# Altium footprint library MiniUSB.PcbLib: 1 footprints
Each footprint in its own frame and in the unit in brackets; x right, y up, seen from the top. Pads: shape width x height; smd on the part's side, far side on the other; paste and mask are expansions set on the pad; w line width, h text height; cw(c..) or ccw(c..) is an arc to the next point about the centre after c.
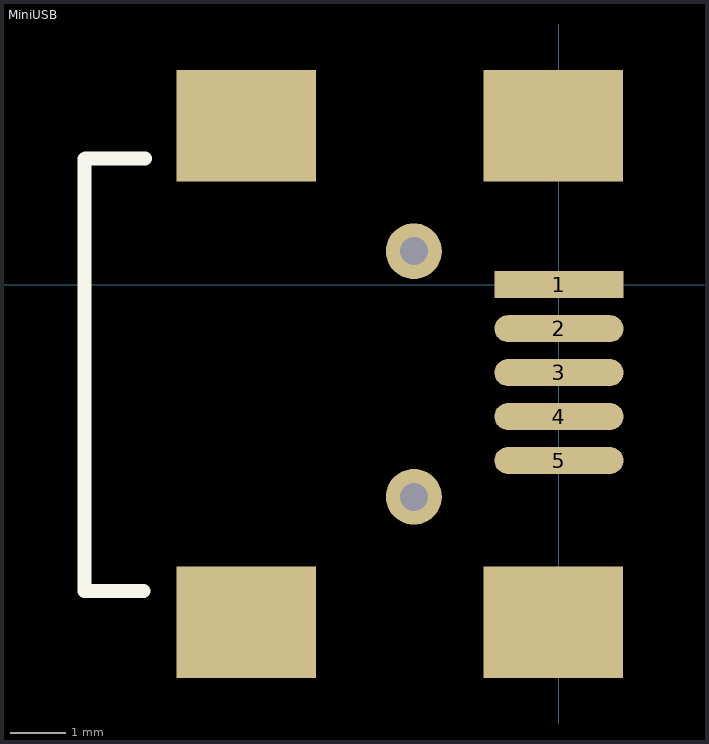
[diagram p0: the footprint, top view; thin cyan lines are the x and y axes]

## MiniUSB [mm]
pads (11):
  rect 2.311x0.483 smd: 1(0,0)
  oval 2.311x0.483 smd: 2(0,-0.787) 3(0,-1.575) 4(0,-2.362) 5(0,-3.15)
  rect 2.5x2 smd: ""(-5.6,-6.05) ""(-5.6,2.85) ""(-0.1,-6.05) ""(-0.1,2.85)
  round 1 hole 0.5: ""(-2.6,-3.8) ""(-2.6,0.6)
Top Overlay:
  lines w0.254: -8.5,-5.485 -8.5,2.25 ; -8.484,-5.486 -7.442,-5.486 ; -8.484,2.261 -7.417,2.261